# Altium schematic symbol library NETTIE.Schlib: 1 symbol
Pins are listed as number, name and electrical type; pins without a type are passive.

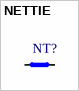
[diagram p0: symbol NETTIE]

## NETTIE
designator NT?  (value not drawn)  (net tie, no BOM)
pins: 1, 2